# Altium schematic symbol library Jammer.SchLib: 13 symbols
Pins are listed as number, name and electrical type; pins without a type are passive.

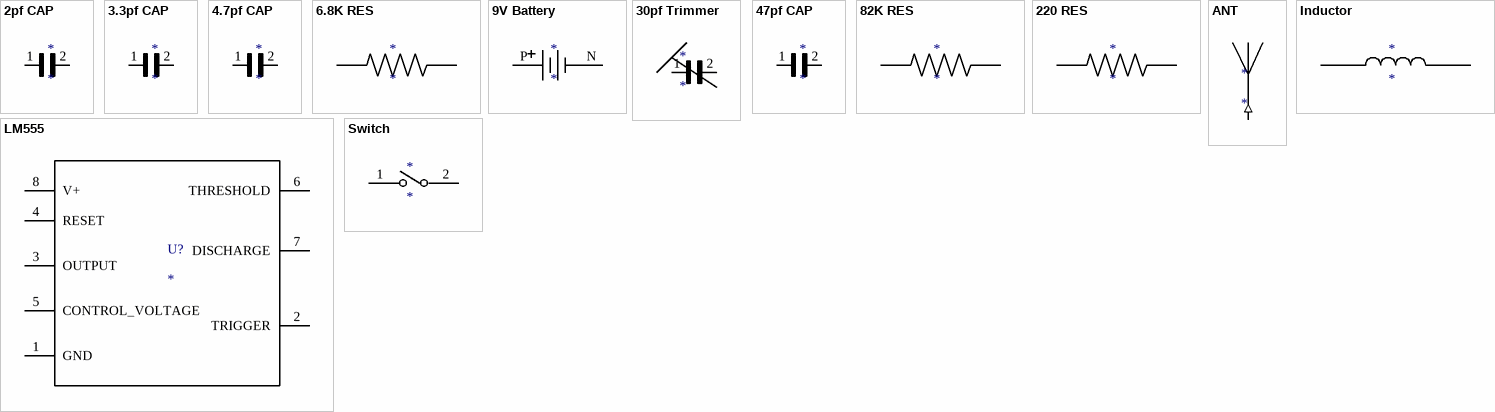
[diagram p0: symbols 2pf CAP to Switch]

## 2pf CAP
designator *
footprint 2pf CAP
pins: 1, 2

## 3.3pf CAP
designator *
footprint 3.3pf CAP
pins: 1, 2

## 4.7pf CAP
designator *
footprint 4.7pf CAP
pins: 1, 2

## 6.8K RES
designator *
footprint 6.8K RES
pins: 1, 2

## 9V Battery
designator *
footprint 9V Battery
pins: N NEG, P POS

## 30pf Trimmer
designator *
footprint 30pf Trimmer
pins: 1, 2

## 47pf CAP
designator *
footprint 47pf CAP
pins: 1, 2

## 82K RES
designator *
footprint 82K RES
pins: 1, 2

## 220 RES
designator *
footprint 220 RES
pins: 1, 2

## ANT
designator *
footprint ANT
pins: 1 FEED (in), 2 FEED (in)

## Inductor
designator *
footprint Inductor
pins: 1, 2

## LM555
designator U?
footprint LM555
pins: 1 GND (power), 2 TRIGGER, 3 OUTPUT, 4 RESET, 5 CONTROL_VOLTAGE, 6 THRESHOLD, 7 DISCHARGE, 8 V+ (power)

## Switch
designator *
footprint Switch
pins: 1, 2